# EAGLE library part MATCHPORT-BG-PRO (library lantronix)
MatchPort b/g Pro
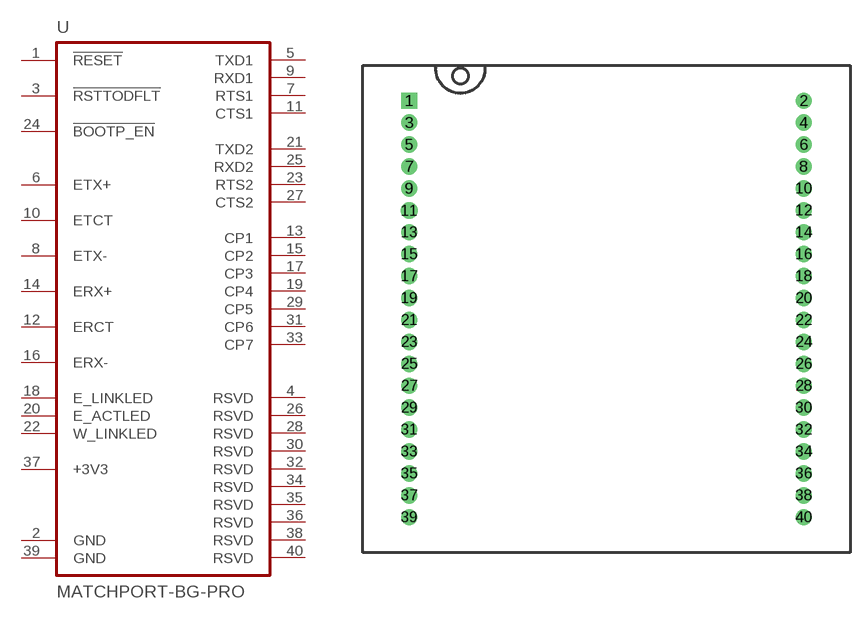
[diagram p1: symbol with the pads of MATCHPORT-BG-PRO; footprint MATCHPORT-BG-PRO]

Designator prefix U

## MATCHPORT-BG-PRO  [MATCHPORT-BG-PRO]
1  !RESET!  in
2  GND  pwr
3  !RSTTODFLT!
4  RSVD  nc
5  TXD1  out
6  ETX+
7  RTS1  out
8  ETX-
9  RXD1  in
10  ETCT
11  CTS1  in
12  ERCT
13  CP1
14  ERX+
15  CP2
16  ERX-
17  CP3
18  E_LINKLED
19  CP4
20  E_ACTLED
21  TXD2  out
22  W_LINKLED
23  RTS2  out
24  !BOOTP_EN!  nc
25  RXD2  in
26  RSVD  nc
27  CTS2  in
28  RSVD  nc
29  CP5
30  RSVD  nc
31  CP6
32  RSVD  nc
33  CP7
34  RSVD  nc
35  RSVD  nc
36  RSVD  nc
37  +3V3  pwr
38  RSVD  nc
39  GND  pwr
40  RSVD  nc

## Footprint MATCHPORT-BG-PRO (pad centres in mm)
MATCHPORT bg Pro Module
drill 0.991 square: 1 -18,19
drill 0.991: 2 18,19; 3 -18,17; 4 18,17; 5 -18,15; 6 18,15; 7 -18,13; 8 18,13; 9 -18,11; 10 18,11; 12 18,9; 13 -18,7; 14 18,7; 15 -18,5; 16 18,5; 17 -18,3; 18 18,3; 19 -18,1; 20 18,1; 21 -18,-1; 22 18,-1; 23 -18,-3; 24 18,-3; 25 -18,-5; 26 18,-5; 27 -18,-7; 28 18,-7; 29 -18,-9; 30 18,-9; 31 -18,-11; 32 18,-11; 33 -18,-13; 34 18,-13; 35 -18,-15; 36 18,-15; 37 -18,-17; 38 18,-17; 39 -18,-19; 40 18,-19
drill 1.016: 11 -18,9